# EAGLE library part TMC2208 (library we-chip)
Trinamic TMC2208 Stepper Motor Driver (5V...36V, 1.2A RMS, 256 microsteps)
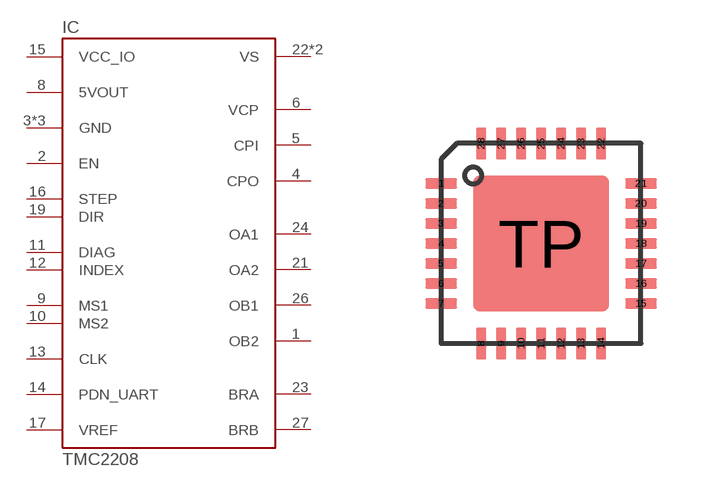
[diagram p41: symbol with the pads of QFN28-PAD; footprint QFN28-PAD]

Designator prefix IC

## TMC2208-LA  [QFN28-PAD]
1  OB2  out
2  EN
3  GND  pwr
4  CPO  pas
5  CPI  pas
6  VCP  pas
8  5VOUT  pwr
9  MS1
10  MS2
11  DIAG
12  INDEX
13  CLK
14  PDN_UART
15  VCC_IO  pwr
16  STEP
17  VREF  pas
18  GND  pwr
19  DIR
21  OA2  out
22  VS  pwr
23  BRA  out
24  OA1  out
26  OB1  out
27  BRB  out
28  VS  pwr
TP  GND  pwr

## Footprint QFN28-PAD (pad centres in mm)
smd 0.8 x 0.26: 1 -2.5,1.5; 2 -2.5,1; 3 -2.5,0.5; 4 -2.5,0; 5 -2.5,-0.5; 6 -2.5,-1; 7 -2.5,-1.5; 15 2.5,-1.5; 16 2.5,-1; 17 2.5,-0.5; 18 2.5,0; 19 2.5,0.5; 20 2.5,1; 21 2.5,1.5
smd 0.26 x 0.8: 8 -1.5,-2.5; 9 -1,-2.5; 10 -0.5,-2.5; 11 0,-2.5; 12 0.5,-2.5; 13 1,-2.5; 14 1.5,-2.5; 22 1.5,2.5; 23 1,2.5; 24 0.5,2.5; 25 0,2.5; 26 -0.5,2.5; 27 -1,2.5; 28 -1.5,2.5
smd 3.4 x 3.4: TP 0,0